# EAGLE library part DG409DYZ (library Intersil_By_element14_Batch_1)
Single 8-Channel/Differential 4-Channel,
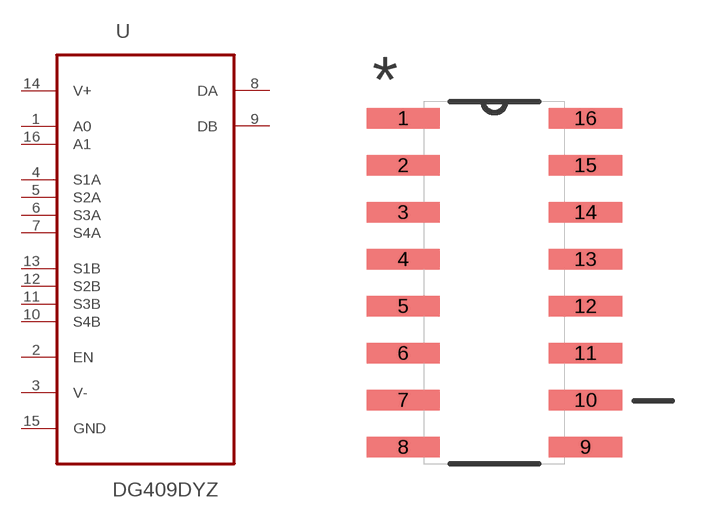
[diagram p35: symbol with the pads of SOIC127P600X175-16N; footprint SOIC127P600X175-16N]

Designator prefix U

## DG409DYZ (MPN: DG409DYZ; OC_FARNELL: 9663835; OC_NEWARK: 11J8342; PACKAGE: SOIC-16; SUPPLIER: INTERSIL)  [SOIC127P600X175-16N]
1  A0  in
2  EN  in
3  V-  pwr
4  S1A  in
5  S2A  in
6  S3A  in
7  S4A  in
8  DA  out
9  DB  out
10  S4B  in
11  S3B  in
12  S2B  in
13  S1B  in
14  V+  pwr
15  GND  pas
16  A1  in

## Footprint SOIC127P600X175-16N (pad centres in mm)
smd 1.981 x 0.559: 1 -2.464,4.445; 2 -2.464,3.175; 3 -2.464,1.905; 4 -2.464,0.635; 5 -2.464,-0.635; 6 -2.464,-1.905; 7 -2.464,-3.175; 8 -2.464,-4.445; 9 2.464,-4.445; 10 2.464,-3.175; 11 2.464,-1.905; 12 2.464,-0.635; 13 2.464,0.635; 14 2.464,1.905; 15 2.464,3.175; 16 2.464,4.445